# Altium footprint library 变压器.PcbLib: 1 footprints
Each footprint in its own frame and in the unit in brackets; x right, y up, seen from the top. Pads: shape width x height; smd on the part's side, far side on the other; paste and mask are expansions set on the pad; w line width, h text height; cw(c..) or ccw(c..) is an arc to the next point about the centre after c.
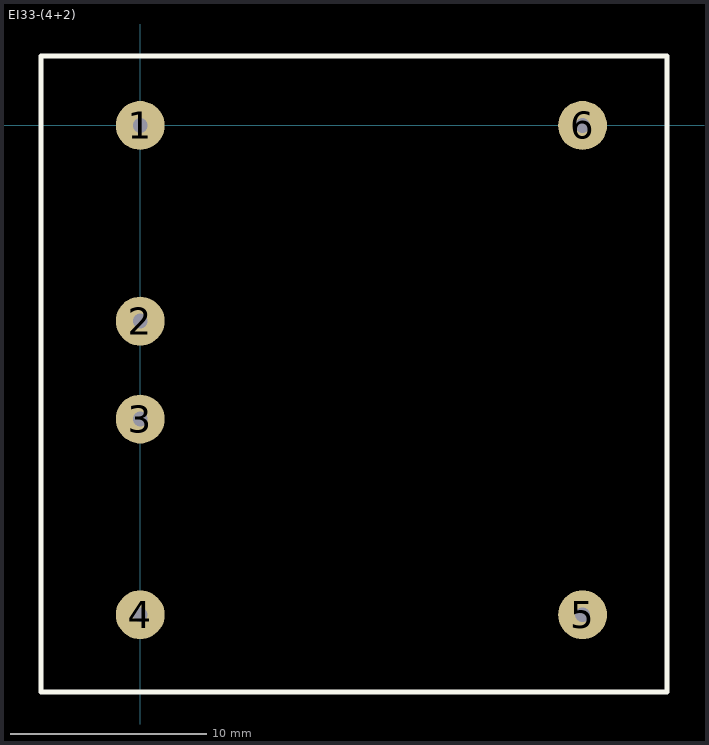
[diagram p0: the footprint, top view; thin cyan lines are the x and y axes]

## EI33-(4+2) [mm]
pads (6):
  round 2.5 hole 0.762: 1(0,0) 2(0,-10) 3(0,-15) 4(0,-25) 5(22.6,-25) 6(22.6,0)
TopOverlay:
  lines w0.254: -5.08,-28.956 -5.08,3.556 26.924,3.556 26.924,-28.956 -5.08,-28.956